# EAGLE library part EZ-USB-2*S (library cypress)
Microcontroller with USB port
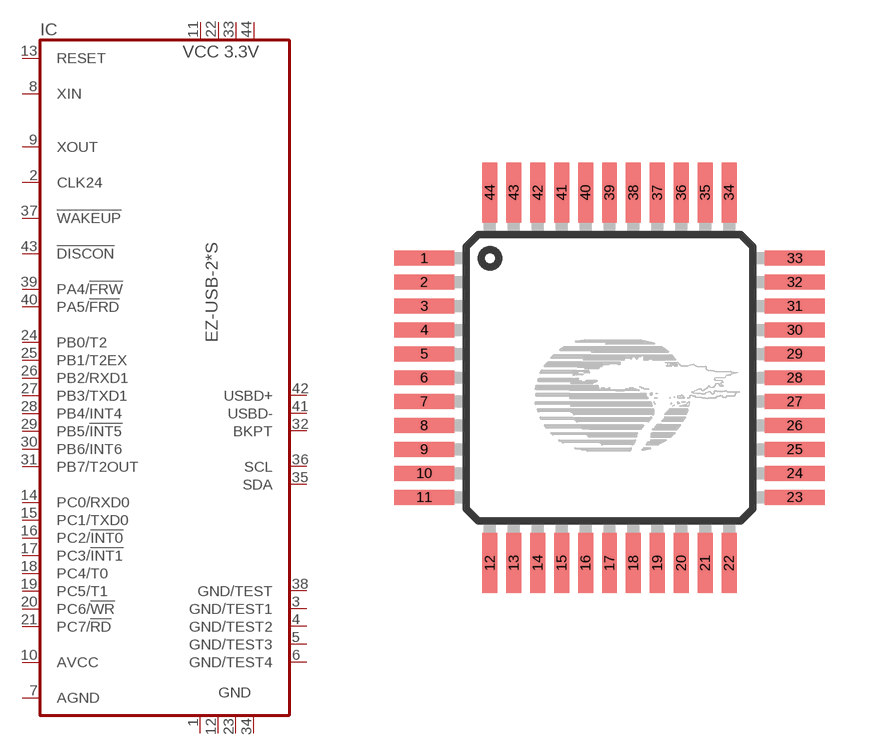
[diagram p3: symbol with the pads of PQFP44; footprint PQFP44]

Designator prefix IC

## EZ-USB-2121S (OC_FARNELL: unknown; OC_NEWARK: unknown), EZ-USB-2122S (OC_FARNELL: unknown; OC_NEWARK: unknown), EZ-USB-2131S (OC_FARNELL: unknown; OC_NEWARK: unknown)  [PQFP44]
1  GND  pwr
2  CLK24  out
3  GND/TEST1  pwr
4  GND/TEST2  pwr
5  GND/TEST3  pwr
6  GND/TEST4  pwr
7  AGND  pwr
8  XIN  in
9  XOUT  out
10  AVCC  pwr
11  VCC3.3  pwr
12  GND  pwr
13  RESET  in
14  PC0/RXD0
15  PC1/TXD0
16  PC2/!INT0
17  PC3/!INT1
18  PC4/T0
19  PC5/T1
20  PC6/!WR
21  PC7/!RD
22  VCC3.3  pwr
23  GND  pwr
24  PB0/T2
25  PB1/T2EX
26  PB2/RXD1
27  PB3/TXD1
28  PB4/INT4
29  PB5/!INT5
30  PB6/INT6
31  PB7/T2OUT
32  BKPT  out
33  VCC3.3  pwr
34  GND  pwr
35  SDA  oc
36  SCL  oc
37  !WAKEUP  in
38  GND/TEST  pwr
39  PA4/!FRW
40  PA5/!FRD
41  USBD-  hiz
42  USBD+  hiz
43  !DISCON  out
44  VCC3.3  pwr

## Footprint PQFP44 (pad centres in mm)
Plastic Quad Flat Package
smd 2 x 0.5: 1 -6.2,4; 2 -6.2,3.2; 3 -6.2,2.4; 4 -6.2,1.6; 5 -6.2,0.8; 6 -6.2,0; 7 -6.2,-0.8; 8 -6.2,-1.6; 9 -6.2,-2.4; 10 -6.2,-3.2; 11 -6.2,-4; 23 6.2,-4; 24 6.2,-3.2; 25 6.2,-2.4; 26 6.2,-1.6; 27 6.2,-0.8; 28 6.2,0; 29 6.2,0.8; 30 6.2,1.6; 31 6.2,2.4; 32 6.2,3.2; 33 6.2,4
smd 0.5 x 2: 12 -4,-6.2; 13 -3.2,-6.2; 14 -2.4,-6.2; 15 -1.6,-6.2; 16 -0.8,-6.2; 17 0,-6.2; 18 0.8,-6.2; 19 1.6,-6.2; 20 2.4,-6.2; 21 3.2,-6.2; 22 4,-6.2; 34 4,6.2; 35 3.2,6.2; 36 2.4,6.2; 37 1.6,6.2; 38 0.8,6.2; 39 0,6.2; 40 -0.8,6.2; 41 -1.6,6.2; 42 -2.4,6.2; 43 -3.2,6.2; 44 -4,6.2